# Altium integrated library Opto.IntLib: 9 symbols
Pins are listed as number, name and electrical type; pins without a type are passive.

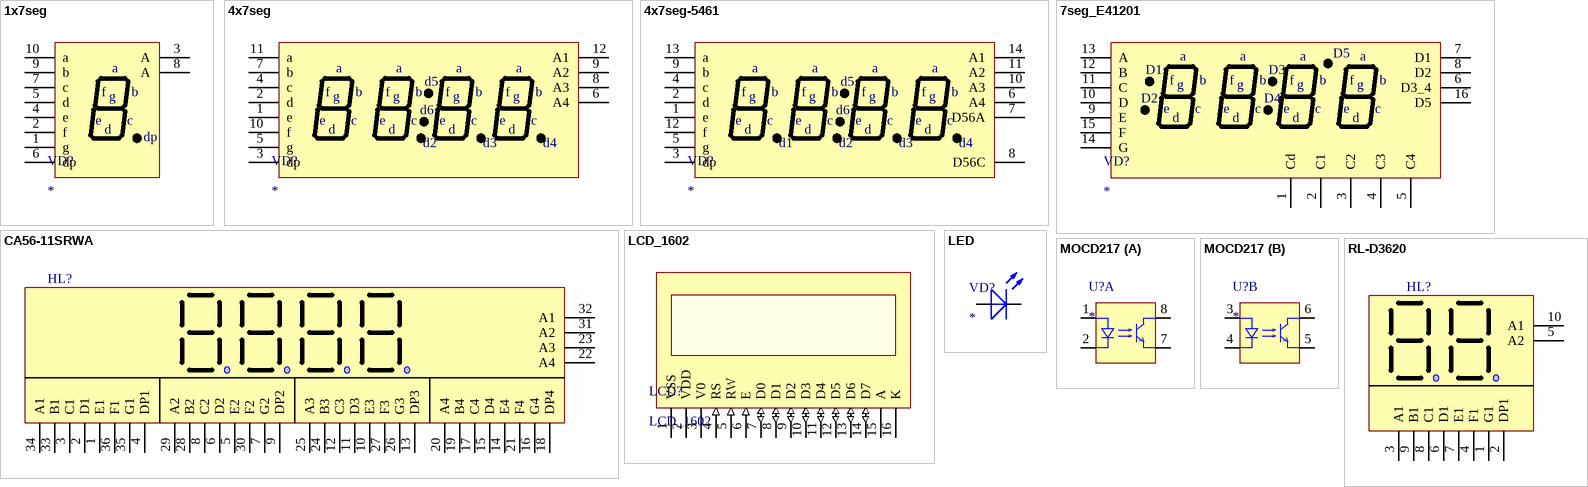
[diagram p0: symbols 1x7seg to RL-D3620]

## 1x7seg
designator VD?
footprint SA39 (9.9mm (0.39INCH) SINGLE DIGIT NUMERIC DISPLAY)
pins: 1 g, 2 f, 3 A, 4 e, 5 d, 6 dp, 7 c, 8 A, 9 b, 10 a

## 4x7seg
designator VD?
footprint E40281 (7mm (0.28'') four digit numeric display)
pins: 1 e, 2 d, 3 dp, 4 c, 5 g, 6 A4, 7 b, 8 A3, 9 A2, 10 f, 11 a, 12 A1
text: d5; d6; d2; d3; d4

## 4x7seg-5461
designator VD?
0.56 inch Red 4 Digit 5461 LED Display 7 Segment Common Anode; ebay: http://www.ebay.com/itm/111484743397?_trksid=p2060778.m2749.l2649&ssPageName=STRK%3AMEBIDX%3AIT
footprint 7SEG-5461 (0.56 inch Red 4 Digit 5461 LED Display 7 seg Common Anode)
pins: 1 e, 2 d, 3 dp, 4 c, 5 g, 6 A4, 7 D56A, 8 D56C, 9 b, 10 A3, 11 A2, 12 f, 13 a, 14 A1
text: d5; d6; d1; d2; d3; d4

## 7seg_E41201
designator VD?
footprint E41201-LI (7-segment LED clock display)
pins: 1 Cd, 2 C1, 3 C2, 4 C3, 5 C4, 6 D3_4, 7 D1, 8 D2, 9 E, 10 D, 11 C, 12 B, 13 A, 14 G, 15 F, 16 D5
text: a; D3; f; b; g; D4; e; c; d

## CA56-11SRWA
designator HL?  (value not drawn)
14.2mm(0.56INCH) Four digit numeric display (Common Anode)
footprint CA56-11SRWA (14.2mm(0.56inch) four digit numeric display)
pins: 1 E1, 2 D1, 3 C1, 4 DP1, 5 E2, 6 D2, 7 G2, 8 C2, 9 DP2, 10 E3, 11 D3, 12 C3, 13 DP3, 14 E4, 15 D4, 16 G4, 17 C4, 18 DP4, 19 B4, 20 A4, 21 F4, 22 A4, 23 A3, 24 B3, 25 A3, 26 G3, 27 F3, 28 B2, 29 A2, 30 F2, 31 A2, 32 A1, 33 B1, 34 A1, 35 G1, 36 F1

## LCD_1602
designator LCD?
footprint LCD1602 (16x02 LCD)
pins: 1 VSS (power), 2 VDD (power), 3 V0, 4 RS (in), 5 RW (in), 6 E (in), 7 D0 (io), 8 D1 (io), 9 D2 (io), 10 D3 (io), 11 D4 (io), 12 D5 (io), 13 D6 (io), 14 D7 (io), 15 A (power), 16 K (power)

## LED
designator VD?
footprint Combi (SMD+TH patern)
footprint LED2.54x3 (LED 2.54 p-p 3x5mm (DxH))
footprint LED2.54x5 (LED 2.54 p-p 5x8.6mm (DxH))
footprint LED1005 (LED 1.0x0.5mm)
footprint LED1608 (LED 1.6x0.8mm)
footprint LED2012 (LED 2.0x1.2mm)
footprint OP168 (2.54 p-p (1.52x4.06x3.24)mm)
footprint TO-46 (2.54 p-p 5.33x3.7mm (DxH))
pins: A, K

## MOCD217
designator U?
Dual optocouple
footprint SO-8 (MOCD217) (SOIC, 8-Leads, Body 5.1x4.2mm (max), Pitch 1.27mm, IPC Medium Density)
part A pins: 1 A, 2 K, 7 E, 8 C
part B pins: 3 A, 4 K, 5 E, 6 C

## RL-D3620
designator HL?  (value not drawn)
Two digit numeric display
footprint RL-D3620 (Two digit numeric display)
pins: 1 G1, 2 DP1, 3 A1, 4 F1, 5 A2, 6 D1, 7 E1, 8 C1, 9 B1, 10 A1